# EAGLE library part W25Q32JVDAIQ (library W25Q32JVDAIQ)
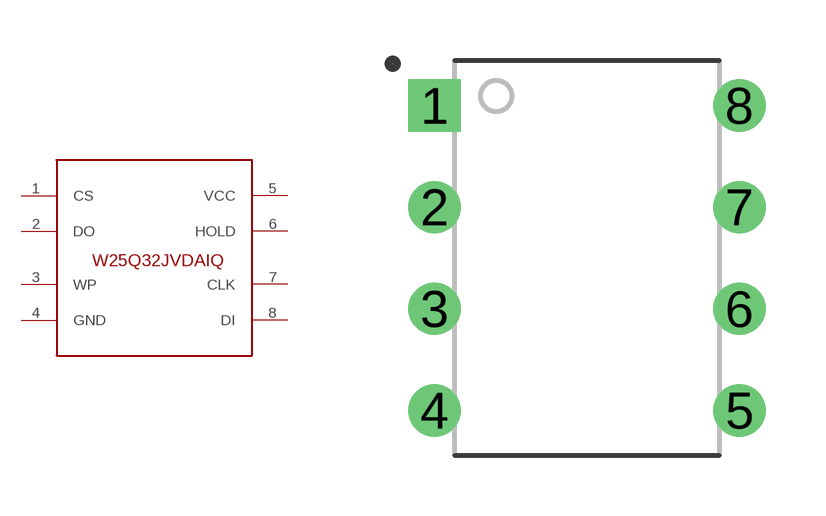
[diagram p0: symbol with the pads of W25Q32JVDAIQ; footprint W25Q32JVDAIQ]

Designator prefix -

## W25Q32JVDAIQ  [W25Q32JVDAIQ]
1  CS
2  DO
3  WP
4  GND
5  VCC
6  HOLD
7  CLK
8  DI

## Footprint W25Q32JVDAIQ (pad centres in mm)
drill 0.8 square: 1 -3.81,3.81
drill 0.8: 2 -3.81,1.27; 3 -3.81,-1.27; 4 -3.81,-3.81; 5 3.81,-3.81; 6 3.81,-1.27; 7 3.81,1.27; 8 3.81,3.81